# Altium footprint library PCB - CONNECTOR - HARWIN - HARWIN M20-9741045.PcbLib: 1 footprints
Each footprint in its own frame and in the unit in brackets; x right, y up, seen from the top. Pads: shape width x height; smd on the part's side, far side on the other; paste and mask are expansions set on the pad; w line width, h text height; cw(c..) or ccw(c..) is an arc to the next point about the centre after c.
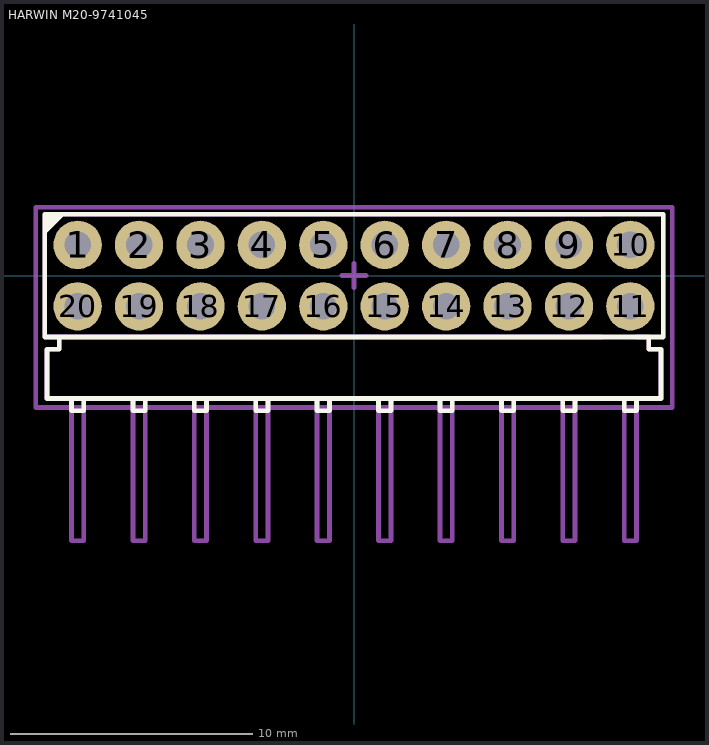
[diagram p0: the footprint, top view; thin cyan lines are the x and y axes]

## HARWIN M20-9741045 [mm] "2.54mm DIL PC TAIL PIN HEADER ASSEMBLY"
height 2.54
pads (20):
  round 2 hole 1.1: 1(-11.43,1.27) 2(-8.89,1.27) 3(-6.35,1.27) 4(-3.81,1.27) 5(-1.27,1.27) 6(1.27,1.27) 7(3.81,1.27) 8(6.35,1.27) 9(8.89,1.27) 10(11.43,1.27) 11(11.43,-1.27) 12(8.89,-1.27) 13(6.35,-1.27) 14(3.81,-1.27) 15(1.27,-1.27) 16(-1.27,-1.27) 17(-3.81,-1.27) 18(-6.35,-1.27) 19(-8.89,-1.27) 20(-11.43,-1.27)
Top Overlay:
  region: -12.81,2.57 -12.81,1.67 -11.91,2.57
  lines w0.2: -12.192,-2.54 -12.192,-3.048 -12.7,-3.048 -12.7,-5.08 12.7,-5.08 12.7,-3.048 12.192,-3.048 12.192,-2.54 ; -11.684,-5.08 -11.684,-5.588 -11.176,-5.588 -11.176,-5.08 ; -9.144,-5.08 -9.144,-5.588 -8.636,-5.588 -8.636,-5.08 ; -6.604,-5.08 -6.604,-5.588 -6.096,-5.588 -6.096,-5.08 ; -4.064,-5.08 -4.064,-5.588 -3.556,-5.588 -3.556,-5.08 ; -1.524,-5.08 -1.524,-5.588 -1.016,-5.588 -1.016,-5.08 ; 1.016,-5.08 1.016,-5.588 1.524,-5.588 1.524,-5.08 ; 3.556,-5.08 3.556,-5.588 4.064,-5.588 4.064,-5.08 ; 6.096,-5.08 6.096,-5.588 6.604,-5.588 6.604,-5.08 ; 8.636,-5.08 8.636,-5.588 9.144,-5.588 9.144,-5.08 ; 11.176,-5.08 11.176,-5.588 11.684,-5.588 11.684,-5.08 ; -12.79,-2.54 -12.79,2.54 12.79,2.54 12.79,-2.54 -12.79,-2.54
Top Assembly:
  lines w0.2: -11.684,-2.54 -12.192,-2.54 -12.192,-3.048 -12.7,-3.048 -12.7,-5.08 -11.684,-5.08 -11.684,-10.97 -11.176,-10.97 -11.176,-5.08 -9.144,-5.08 -9.144,-10.97 -8.636,-10.97 -8.636,-5.08 -6.604,-5.08 -6.604,-10.97 -6.096,-10.97 -6.096,-5.08 -4.064,-5.08 -4.064,-10.97 -3.556,-10.97 -3.556,-5.08 -1.524,-5.08 -1.524,-10.97 -1.016,-10.97 -1.016,-5.08 1.016,-5.08 1.016,-10.97 1.524,-10.97 1.524,-5.08 3.556,-5.08 3.556,-10.97 4.064,-10.97 4.064,-5.08 6.096,-5.08 6.096,-10.97 6.604,-10.97 6.604,-5.08 8.636,-5.08 8.636,-10.97 9.144,-10.97 9.144,-5.08 ; -0.5,0 0.5,0 ; 0,-0.5 0,0.5 ; 10.25,-2.54 -12.79,-2.54 -12.79,2.54 10.25,2.54 ; 11.176,-5.08 11.176,-10.97 11.684,-10.97 11.684,-5.08 12.7,-5.08 12.7,-3.048 12.192,-3.048 12.192,-2.54 11.684,-2.54 ; 12.79,-2.54 12.79,2.54
Top Courtyard (Mech15):
  lines w0.2: -13.16,-5.454 13.16,-5.454 13.16,2.83 -13.16,2.83 -13.16,-5.454
3D body "M20-7831042.step": height 5, standoff -3.04, extent -12.7,-10.97 12.7,1.59